# Altium schematic symbol library National_Semiconductor_LM3691TL_3_3_NOPB.SchLib: 1 symbol
Pins are listed as number, name and electrical type; pins without a type are passive.

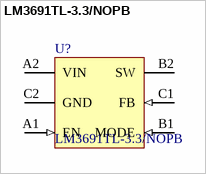
[diagram p0: symbol LM3691TL-3.3/NOPB]

## LM3691TL-3.3/NOPB
designator U?
High Accuracy, Miniature 1A, Step-Down DC-DC Converter for Portable Applications, 6-pin Micro SMD, 250 Reel; Manufacturer: National Semiconductor; PackageTopMarking: XV*I T; High-Reliability: Y; CompType: MiscPower; PowerWise: N; ComponentLink4Description: TLA06LCA Package Page; PartNumber: LM3691TL-3.3/NOPB; ComponentLink1Description: Manufacturer URL; ComponentLink2Description: LM3691 Datasheet; DatasheetVersion: Jan-2011; ComponentLink3URL: http://www.national.com/pf/LM/LM3691.html; ComponentLink1URL: http://www.national.com/; Code_JEDEC: MO-211-DB; RevisionNote: PCB top paste location updated.; ComponentLink4URL: http://www.national.com/packaging/folders/tla06lca.html; PackageReference: TLA06LCA; ComponentLink3Description: LM3691 Web Page; PackageVersion: revC, Jan-2004; RoHS: Y; PinCount: 6; ComponentLink2URL: http://www.national.com/ds/LM/LM3691.pdf; PackageDescription: Thin Micro SMD, 6 Bump (Large), 0.5mm Pitch
footprint TLA06LCA
pins: A1 EN (in), A2 VIN (power), B1 MODE (in), B2 SW (power), C1 FB (in), C2 GND (power)